# Altium footprint library PcbLib1.PcbLib: 5 footprints
Each footprint in its own frame and in the unit in brackets; x right, y up, seen from the top. Pads: shape width x height; smd on the part's side, far side on the other; paste and mask are expansions set on the pad; w line width, h text height; cw(c..) or ccw(c..) is an arc to the next point about the centre after c.
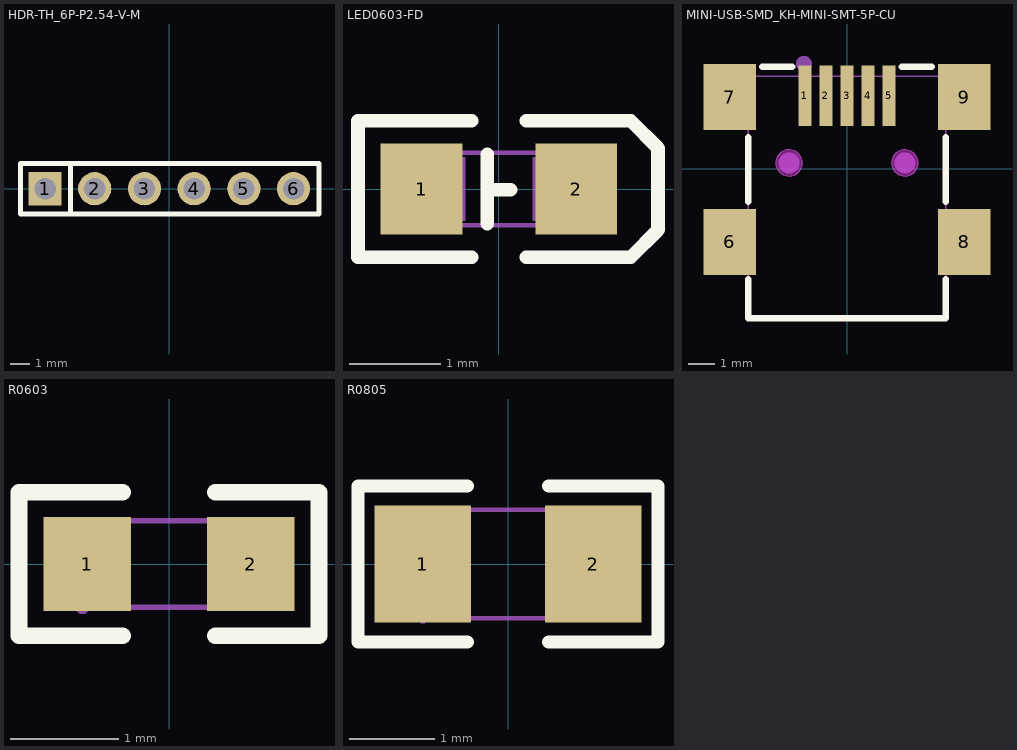
[diagram p0: the footprints below, top view; thin cyan lines are the x and y axes]

## HDR-TH_6P-P2.54-V-M [mm]
pads (6):
  rect 1.7x1.7 hole 1.1: 1(-6.35,0)
  round 1.7 hole 1.1: 2(-3.81,0) 3(-1.27,0) 4(1.27,0) 5(3.81,0) 6(6.35,0)
Top Overlay:
  lines w0.254: -5.056,-1.27 -5.056,1.27 ; -7.6,-1.3 7.65,-1.3 7.65,1.3 -7.6,1.3 -7.6,-1.3
Mechanical 15:
  region: -7.56,-1.27 -7.56,-1.295 -7.595,-1.33 -7.645,-1.33 -7.68,-1.295 -7.68,-1.27 -7.68,-1.245 -7.645,-1.21 -7.595,-1.21 -7.56,-1.245 -7.56,-1.27
  region: 6.03,0.32 6.67,0.32 6.67,-0.32 6.03,-0.32
  region: 3.49,0.32 4.13,0.32 4.13,-0.32 3.49,-0.32
  region: 0.95,0.32 1.59,0.32 1.59,-0.32 0.95,-0.32
  region: -1.59,0.32 -0.95,0.32 -0.95,-0.32 -1.59,-0.32
  region: -4.13,0.32 -3.49,0.32 -3.49,-0.32 -4.13,-0.32
  region: -6.67,0.32 -6.03,0.32 -6.03,-0.32 -6.67,-0.32
  lines w0.051: -7.62,-1.27 -7.62,1.27 7.62,1.27 7.62,-1.27 -7.62,-1.27

## LED0603-FD [mm]
pads (2):
  rect 0.9x1 smd: 1(-0.85,0) 2(0.85,0)
Top Overlay:
  lines w0.15: -1.55,-0.75 -0.3,-0.75 ; -1.55,-0.75 -1.55,0.73 ; -1.55,0.75 -0.3,0.75 ; -0.127,-0.381 -0.127,0.381 ; -0.127,-0.006 0.127,-0.006 ; 0.3,-0.75 1.45,-0.75 1.75,-0.45 1.75,-0.35 1.75,0.35 1.75,0.45 1.45,0.75 0.3,0.75
Mechanical 6:
  region: -0.865,-0.273 -0.865,0.327 -0.715,0.327 -0.715,-0.273
  region: 0.6,0.1 1.2,0.1 1.2,-0.05 0.6,-0.05
  region: -1.1,0.1 -0.5,0.1 -0.5,-0.05 -1.1,-0.05
Mechanical 15:
  region: 0.37,-0.35 0.37,0.35 0.8,0.35 0.8,-0.35
  region: -0.8,-0.35 -0.8,0.35 -0.37,0.35 -0.37,-0.35
  region: -0.74,-0.4 -0.74,-0.425 -0.775,-0.46 -0.825,-0.46 -0.86,-0.425 -0.86,-0.4 -0.86,-0.375 -0.825,-0.34 -0.775,-0.34 -0.74,-0.375 -0.74,-0.4
  lines w0.051: -0.8,-0.4 -0.8,0.4 0.8,0.4 0.8,-0.4 -0.8,-0.4

## MINI-USB-SMD_KH-MINI-SMT-5P-CU [mm]
pads (9):
  rect 0.5x2.3 smd paste+0 mask+0.05: 1(-1.6,2.775) 2(-0.8,2.775) 3(0,2.775) 4(0.8,2.775) 5(1.6,2.775)
  rect 2x2.5 smd paste+0 mask+0.05: 6(-4.45,-2.775) 7(-4.45,2.725) 8(4.45,-2.775) 9(4.45,2.725)
Top Overlay:
  lines w0.254: -3.75,-4.206 -3.75,-5.675 3.75,-5.675 3.75,-4.206 ; -3.75,-1.244 -3.75,1.194 ; -3.219,3.885 -2.081,3.885 ; 2.081,3.885 3.219,3.885 ; 3.75,-1.244 3.75,1.194
Keep-Out Layer:
  board cut-out: 2.7,0.225 2.7,0.125 2.624,-0.058 2.483,-0.199 2.299,-0.275 2.1,-0.275 1.917,-0.199 1.776,-0.058 1.7,0.125 1.7,0.225 1.7,0.324 1.776,0.508 1.917,0.649 2.1,0.725 2.299,0.725 2.483,0.649 2.624,0.508 2.7,0.324 2.7,0.225
  board cut-out: -1.7,0.225 -1.7,0.125 -1.776,-0.058 -1.917,-0.199 -2.1,-0.275 -2.299,-0.275 -2.483,-0.199 -2.624,-0.058 -2.7,0.125 -2.7,0.225 -2.7,0.324 -2.624,0.508 -2.483,0.649 -2.299,0.725 -2.1,0.725 -1.917,0.649 -1.776,0.508 -1.7,0.324 -1.7,0.225
Keep-Out Layer:
  circle w0.025: c2.2,0.225 r0.5
  circle w0.025: c-2.2,0.225 r0.5
  region: 2.7,0.225 2.7,0.125 2.624,-0.058 2.483,-0.199 2.299,-0.275 2.1,-0.275 1.917,-0.199 1.776,-0.058 1.7,0.125 1.7,0.225 1.7,0.324 1.776,0.508 1.917,0.649 2.1,0.725 2.299,0.725 2.483,0.649 2.624,0.508 2.7,0.324 2.7,0.225
  region: -1.7,0.225 -1.7,0.125 -1.776,-0.058 -1.917,-0.199 -2.1,-0.275 -2.299,-0.275 -2.483,-0.199 -2.624,-0.058 -2.7,0.125 -2.7,0.225 -2.7,0.324 -2.624,0.508 -2.483,0.649 -2.299,0.725 -2.1,0.725 -1.917,0.649 -1.776,0.508 -1.7,0.324 -1.7,0.225
Mechanical 1:
  circle w0.025: c2.2,0.225 r0.5
  circle w0.025: c-2.2,0.225 r0.5
Mechanical 6:
  circle w0.3: c-1.635,3.992 r0.15
  circle w0.4: c2.2,0.225 r0.2
  circle w0.4: c-2.2,0.225 r0.2
Mechanical 15:
  region: -1.45,3.525 -1.45,2.325 -1.75,2.325 -1.75,3.525
  region: -0.65,3.525 -0.65,2.325 -0.95,2.325 -0.95,3.525
  region: 0.15,3.525 0.15,2.325 -0.15,2.325 -0.15,3.525
  region: 0.95,3.525 0.95,2.325 0.65,2.325 0.65,3.525
  region: 1.75,3.525 1.75,2.325 1.45,2.325 1.45,3.525
  region: 4.699,-1.975 4.699,-3.475 3.749,-3.475 3.749,-1.975
  region: 4.699,3.525 4.699,2.025 3.749,2.025 3.749,3.525
  region: -3.749,-1.975 -3.749,-3.475 -4.699,-3.475 -4.699,-1.975
  region: -3.749,3.525 -3.749,2.025 -4.699,2.025 -4.699,3.525
  region: -4.64,3.525 -4.64,3.5 -4.675,3.465 -4.725,3.465 -4.76,3.5 -4.76,3.525 -4.76,3.55 -4.725,3.585 -4.675,3.585 -4.64,3.55 -4.64,3.525
  lines w0.051: -3.75,-5.675 3.75,-5.675 3.75,3.525 -3.75,3.525 -3.75,-5.675

## R0603 [mm]
pads (2):
  rect 0.806x0.864 smd paste-100 mask+0.051: 1(-0.753,0) 2(0.753,0)
Top Overlay:
  lines w0.152: -0.426,-0.661 -1.385,-0.661 -1.385,0.661 -0.426,0.661 ; 0.426,-0.661 1.385,-0.661 1.385,0.661 0.426,0.661
Top Paste:
  region: 1.195,0.45 0.395,0.45 0.345,0.4 0.345,0.172 0.715,0.172 0.715,-0.158 0.345,-0.158 0.345,-0.4 0.395,-0.45 1.195,-0.45 1.245,-0.4 1.245,0.4
  region: -1.195,-0.45 -0.395,-0.45 -0.345,-0.4 -0.345,-0.172 -0.715,-0.172 -0.715,0.158 -0.345,0.158 -0.345,0.4 -0.395,0.45 -1.195,0.45 -1.245,0.4 -1.245,-0.4
Mechanical 15:
  region: -0.74,-0.4 -0.74,-0.425 -0.775,-0.46 -0.825,-0.46 -0.86,-0.425 -0.86,-0.4 -0.86,-0.375 -0.825,-0.34 -0.775,-0.34 -0.74,-0.375 -0.74,-0.4
  region: -0.8,-0.4 -0.8,0.4 -0.5,0.4 -0.5,-0.4
  region: 0.8,-0.4 0.8,0.4 0.5,0.4 0.5,-0.4
  lines w0.051: -0.8,-0.4 -0.8,0.4 0.8,0.4 0.8,-0.4 -0.8,-0.4

## R0805 [mm]
pads (2):
  rect 1.133x1.377 smd paste-100 mask+0.051: 1(-1,0) 2(1,0)
Top Overlay:
  lines w0.152: -0.476,-0.917 -1.761,-0.917 -1.761,0.917 -0.476,0.917 ; 0.476,-0.917 1.761,-0.917 1.761,0.917 0.476,0.917
Top Paste:
  region: 0.45,-0.64 0.45,-0.22 0.895,-0.22 0.895,0.23 0.455,0.23 0.45,0.64 0.5,0.69 1.65,0.69 1.7,0.64 1.7,-0.64 1.65,-0.69 0.5,-0.69
  region: -1.7,-0.64 -1.7,0.64 -1.65,0.69 -0.5,0.69 -0.45,0.64 -0.445,0.23 -0.895,0.23 -0.895,-0.22 -0.455,-0.22 -0.45,-0.64 -0.5,-0.69 -1.65,-0.69
Mechanical 15:
  region: 1,-0.637 1,0.637 0.6,0.637 0.6,-0.637
  region: -1,-0.637 -1,0.637 -0.6,0.637 -0.6,-0.637
  region: -0.94,-0.638 -0.94,-0.662 -0.975,-0.698 -1.025,-0.698 -1.06,-0.662 -1.06,-0.638 -1.06,-0.613 -1.025,-0.578 -0.975,-0.578 -0.94,-0.613 -0.94,-0.638
  lines w0.051: -1,-0.637 1,-0.637 1,0.637 -1,0.637 -1,-0.637